# Altium footprint library Diodes.PcbLib: 39 footprints (part 2 of 3)
Each footprint in its own frame and in the unit in brackets; x right, y up, seen from the top. Pads: shape width x height; smd on the part's side, far side on the other; paste and mask are expansions set on the pad; w line width, h text height; cw(c..) or ccw(c..) is an arc to the next point about the centre after c.
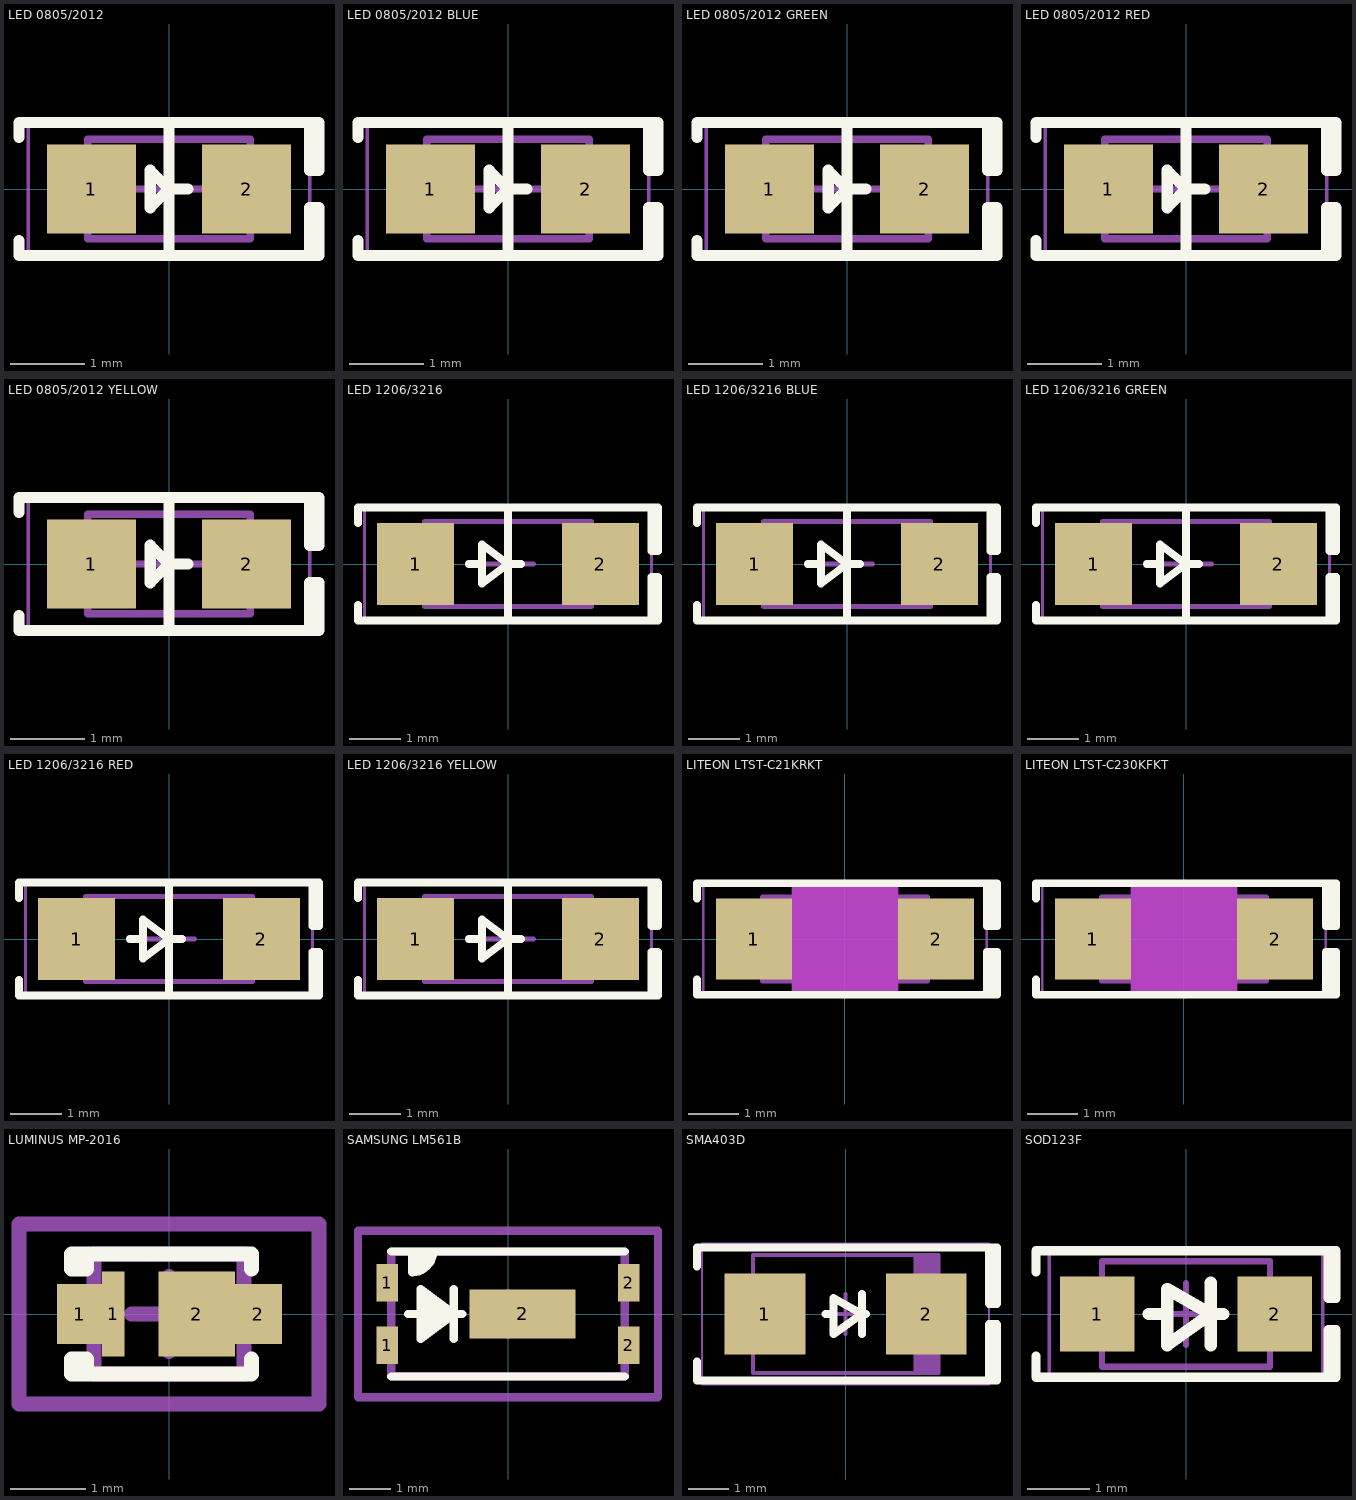
[diagram p1: the footprints below, top view; thin cyan lines are the x and y axes]

## LED 0805/2012 [mm] "Chip Diode, 2-Leads, Body 2.00x1.25mm, IPC Medium Density"
height 0.7
pads (2):
  rect 1.2x1.2 smd: 1(-1.05,0) 2(1.05,0)
Top Overlay:
  lines w0.15: -2.032,-0.7 -2.032,-0.9 1.905,-0.9 ; -2.032,0.7 -2.032,0.9 1.905,0.9 ; 0,-0.9 0,0.9 ; 0.254,0 0,0 ; 0,0 -0.254,0.254 -0.254,-0.254 0,0 ; 1.905,-0.9 2.032,-0.9 2.032,-0.254 1.905,-0.254 1.905,-0.9 ; 1.905,0.9 2.032,0.9 2.032,0.254 1.905,0.254 1.905,0.9
Mechanical 13:
  lines w0.1: -1.1,-0.675 -1.1,0.675 1.1,0.675 1.1,-0.675 -1.1,-0.675
Mechanical 15:
  lines w0.05: -1.905,-0.95 -1.905,0.95 1.905,0.95 1.905,-0.95 -1.905,-0.95
  lines w0.1: -0.5,0 0.5,0 ; 0,-0.5 0,0.5
3D body "LED 0805 Lens WHITE.STEP": height 0.9, standoff 0.3, extent -0.65,-0.625 0.65,0.625
3D body "LED 0805 Base WHITE.STEP": height 0.4, standoff 0, extent -1,-0.625 1,0.625

## LED 0805/2012 BLUE [mm] "Chip Diode, 2-Leads, Body 2.00x1.25mm, IPC Medium Density"
height 0.7
pads (2):
  rect 1.2x1.2 smd: 1(-1.05,0) 2(1.05,0)
Top Overlay:
  lines w0.15: -2.032,-0.7 -2.032,-0.9 1.905,-0.9 ; -2.032,0.7 -2.032,0.9 1.905,0.9 ; 0,-0.9 0,0.9 ; 0.254,0 0,0 ; 0,0 -0.254,-0.254 -0.254,0.254 0,0 ; 1.905,-0.9 1.905,-0.254 2.032,-0.254 2.032,-0.9 1.905,-0.9 ; 1.905,0.9 1.905,0.254 2.032,0.254 2.032,0.9 1.905,0.9
Mechanical 13:
  lines w0.1: -1.1,-0.675 1.1,-0.675 1.1,0.675 -1.1,0.675 -1.1,-0.675
Mechanical 15:
  lines w0.05: -1.905,-0.95 1.905,-0.95 1.905,0.95 -1.905,0.95 -1.905,-0.95
  lines w0.1: -0.5,0 0.5,0 ; 0,-0.5 0,0.5
3D body "LED 0805 Base BLUE.STEP": height 0.4, standoff 0, extent -1,-0.625 1,0.625
3D body "LED 0805 Lens BLUE.STEP": height 0.9, standoff 0.3, extent -0.65,-0.625 0.65,0.625

## LED 0805/2012 GREEN [mm] "Chip Diode, 2-Leads, Body 2.00x1.25mm, IPC Medium Density"
height 0.7
pads (2):
  rect 1.2x1.2 smd: 1(-1.05,0) 2(1.05,0)
Top Overlay:
  lines w0.15: -2.032,-0.7 -2.032,-0.9 1.905,-0.9 ; -2.032,0.7 -2.032,0.9 1.905,0.9 ; 0,-0.9 0,0.9 ; 0.254,0 0,0 ; 0,0 -0.254,0.254 -0.254,-0.254 0,0 ; 1.905,-0.9 1.905,-0.254 2.032,-0.254 2.032,-0.9 1.905,-0.9 ; 1.905,0.9 1.905,0.254 2.032,0.254 2.032,0.9 1.905,0.9
Mechanical 13:
  lines w0.1: -1.1,-0.675 1.1,-0.675 1.1,0.675 -1.1,0.675 -1.1,-0.675
Mechanical 15:
  lines w0.05: -1.905,-0.95 1.905,-0.95 1.905,0.95 -1.905,0.95 -1.905,-0.95
  lines w0.1: -0.5,0 0.5,0 ; 0,-0.5 0,0.5
3D body "LED 0805 Base GREEN.STEP": height 0.4, standoff 0, extent -1,-0.625 1,0.625
3D body "LED 0805 Lens GREEN.STEP": height 0.9, standoff 0.3, extent -0.65,-0.625 0.65,0.625

## LED 0805/2012 RED [mm] "Chip Diode, 2-Leads, Body 2.00x1.25mm, IPC Medium Density"
height 0.7
pads (2):
  rect 1.2x1.2 smd: 1(-1.05,0) 2(1.05,0)
Top Overlay:
  lines w0.15: -2.032,-0.7 -2.032,-0.9 1.905,-0.9 ; -2.032,0.7 -2.032,0.9 1.905,0.9 ; 0,-0.9 0,0.9 ; 0.254,0 0,0 ; 0,0 -0.254,0.254 -0.254,-0.254 0,0 ; 1.905,-0.9 2.032,-0.9 2.032,-0.254 1.905,-0.254 1.905,-0.9 ; 1.905,0.9 2.032,0.9 2.032,0.254 1.905,0.254 1.905,0.9
Mechanical 13:
  lines w0.1: -1.1,-0.675 -1.1,0.675 1.1,0.675 1.1,-0.675 -1.1,-0.675
Mechanical 15:
  lines w0.05: -1.905,-0.95 -1.905,0.95 1.905,0.95 1.905,-0.95 -1.905,-0.95
  lines w0.1: -0.5,0 0.5,0 ; 0,-0.5 0,0.5
3D body "LED 0805 Lens RED.STEP": height 0.9, standoff 0.3, extent -0.65,-0.625 0.65,0.625
3D body "LED 0805 Base RED.STEP": height 0.4, standoff 0, extent -1,-0.625 1,0.625

## LED 0805/2012 YELLOW [mm] "Chip Diode, 2-Leads, Body 2.00x1.25mm, IPC Medium Density"
height 0.7
pads (2):
  rect 1.2x1.2 smd: 1(-1.05,0) 2(1.05,0)
Top Overlay:
  lines w0.15: -2.032,-0.7 -2.032,-0.9 1.905,-0.9 ; -2.032,0.7 -2.032,0.9 1.905,0.9 ; 0,-0.9 0,0.9 ; 0.254,0 0,0 ; 0,0 -0.254,0.254 -0.254,-0.254 0,0 ; 1.905,-0.9 1.905,-0.254 2.032,-0.254 2.032,-0.9 1.905,-0.9 ; 1.905,0.9 1.905,0.254 2.032,0.254 2.032,0.9 1.905,0.9
Mechanical 13:
  lines w0.1: -1.1,-0.675 1.1,-0.675 1.1,0.675 -1.1,0.675 -1.1,-0.675
Mechanical 15:
  lines w0.05: -1.905,-0.95 1.905,-0.95 1.905,0.95 -1.905,0.95 -1.905,-0.95
  lines w0.1: -0.5,0 0.5,0 ; 0,-0.5 0,0.5
3D body "LED 0805 Base YELLOW.STEP": height 0.4, standoff 0, extent -1,-0.625 1,0.625
3D body "LED 0805 Lens YELLOW.STEP": height 0.9, standoff 0.3, extent -0.65,-0.625 0.65,0.625

## LED 1206/3216 [mm] "Chip Diode, 2-Leads, Body 3.13x1.55mm, IPC Medium Density"
height 0.7
pads (2):
  rect 1.5x1.6 smd: 1(-1.8,0) 2(1.8,0)
Top Overlay:
  lines w0.15: -2.921,-0.8 -2.921,-1.1 2.794,-1.1 ; -2.921,0.8 -2.921,1.1 2.794,1.1 ; -0.762,0 -0.508,0 ; 0,-1.1 0,1.1 ; 0.254,0 0,0 ; 0,0 -0.508,-0.381 -0.508,0.381 0,0 ; 2.794,-1.1 2.921,-1.1 2.921,-0.254 2.794,-0.254 2.794,-1.1 ; 2.794,1.1 2.921,1.1 2.921,0.254 2.794,0.254 2.794,1.1
Mechanical 13:
  lines w0.1: -1.625,-0.825 1.625,-0.825 1.625,0.825 -1.625,0.825 -1.625,-0.825
Mechanical 15:
  lines w0.05: -2.794,-1.1 2.794,-1.1 2.794,1.1 -2.794,1.1 -2.794,-1.1
  lines w0.1: -0.5,0 0.5,0 ; 0,-0.5 0,0.5
3D body "LED 1206 Lens WHITE.STEP": height 0.9, standoff 0.3, extent -0.75,-0.8 0.75,0.8
3D body "LED 1206 Base WHITE.STEP": height 0.4, standoff 0, extent -1.6,-0.8 1.6,0.8

## LED 1206/3216 BLUE [mm] "Chip Diode, 2-Leads, Body 3.13x1.55mm, IPC Medium Density"
height 0.7
pads (2):
  rect 1.5x1.6 smd: 1(-1.8,0) 2(1.8,0)
Top Overlay:
  lines w0.15: -2.921,-0.8 -2.921,-1.1 2.794,-1.1 ; -2.921,0.8 -2.921,1.1 2.794,1.1 ; -0.762,0 -0.508,0 ; 0,-1.1 0,1.1 ; 0.254,0 0,0 ; 0,0 -0.508,0.381 -0.508,-0.381 0,0 ; 2.794,-1.1 2.794,-0.254 2.921,-0.254 2.921,-1.1 2.794,-1.1 ; 2.794,1.1 2.794,0.254 2.921,0.254 2.921,1.1 2.794,1.1
Mechanical 13:
  lines w0.1: -1.625,-0.825 -1.625,0.825 1.625,0.825 1.625,-0.825 -1.625,-0.825
Mechanical 15:
  lines w0.05: -2.794,-1.1 -2.794,1.1 2.794,1.1 2.794,-1.1 -2.794,-1.1
  lines w0.1: -0.5,0 0.5,0 ; 0,-0.5 0,0.5
3D body "LED 1206 Base BLUE.STEP": height 0.4, standoff 0, extent -1.6,-0.8 1.6,0.8
3D body "LED 1206 Lens BLUE.STEP": height 0.9, standoff 0.3, extent -0.75,-0.8 0.75,0.8

## LED 1206/3216 GREEN [mm] "Chip Diode, 2-Leads, Body 3.13x1.55mm, IPC Medium Density"
height 0.7
pads (2):
  rect 1.5x1.6 smd: 1(-1.8,0) 2(1.8,0)
Top Overlay:
  lines w0.15: -2.921,-0.8 -2.921,-1.1 2.794,-1.1 ; -2.921,0.8 -2.921,1.1 2.794,1.1 ; -0.762,0 -0.508,0 ; 0,-1.1 0,1.1 ; 0.254,0 0,0 ; 0,0 -0.508,0.381 -0.508,-0.381 0,0 ; 2.794,-1.1 2.794,-0.254 2.921,-0.254 2.921,-1.1 2.794,-1.1 ; 2.794,1.1 2.794,0.254 2.921,0.254 2.921,1.1 2.794,1.1
Mechanical 13:
  lines w0.1: -1.625,-0.825 -1.625,0.825 1.625,0.825 1.625,-0.825 -1.625,-0.825
Mechanical 15:
  lines w0.05: -2.794,-1.1 -2.794,1.1 2.794,1.1 2.794,-1.1 -2.794,-1.1
  lines w0.1: -0.5,0 0.5,0 ; 0,-0.5 0,0.5
3D body "LED 1206 Base GREEN.STEP": height 0.4, standoff 0, extent -1.6,-0.8 1.6,0.8
3D body "LED 1206 Lens GREEN.STEP": height 0.9, standoff 0.3, extent -0.75,-0.8 0.75,0.8

## LED 1206/3216 RED [mm] "Chip Diode, 2-Leads, Body 3.13x1.55mm, IPC Medium Density"
height 0.7
pads (2):
  rect 1.5x1.6 smd: 1(-1.8,0) 2(1.8,0)
Top Overlay:
  lines w0.15: -2.921,-0.8 -2.921,-1.1 2.794,-1.1 ; -2.921,0.8 -2.921,1.1 2.794,1.1 ; -0.762,0 -0.508,0 ; 0,-1.1 0,1.1 ; 0.254,0 0,0 ; 0,0 -0.508,-0.381 -0.508,0.381 0,0 ; 2.794,-1.1 2.921,-1.1 2.921,-0.254 2.794,-0.254 2.794,-1.1 ; 2.794,1.1 2.921,1.1 2.921,0.254 2.794,0.254 2.794,1.1
Mechanical 13:
  lines w0.1: -1.625,-0.825 1.625,-0.825 1.625,0.825 -1.625,0.825 -1.625,-0.825
Mechanical 15:
  lines w0.05: -2.794,-1.1 2.794,-1.1 2.794,1.1 -2.794,1.1 -2.794,-1.1
  lines w0.1: -0.5,0 0.5,0 ; 0,-0.5 0,0.5
3D body "LED 1206 Lens RED.STEP": height 0.9, standoff 0.3, extent -0.75,-0.8 0.75,0.8
3D body "LED 1206 Base RED.STEP": height 0.4, standoff 0, extent -1.6,-0.8 1.6,0.8

## LED 1206/3216 YELLOW [mm] "Chip Diode, 2-Leads, Body 3.13x1.55mm, IPC Medium Density"
height 0.7
pads (2):
  rect 1.5x1.6 smd: 1(-1.8,0) 2(1.8,0)
Top Overlay:
  lines w0.15: -2.921,-0.8 -2.921,-1.1 2.794,-1.1 ; -2.921,0.8 -2.921,1.1 2.794,1.1 ; -0.762,0 -0.508,0 ; 0,-1.1 0,1.1 ; 0.254,0 0,0 ; 0,0 -0.508,-0.381 -0.508,0.381 0,0 ; 2.794,-1.1 2.921,-1.1 2.921,-0.254 2.794,-0.254 2.794,-1.1 ; 2.794,1.1 2.921,1.1 2.921,0.254 2.794,0.254 2.794,1.1
Mechanical 13:
  lines w0.1: -1.625,-0.825 1.625,-0.825 1.625,0.825 -1.625,0.825 -1.625,-0.825
Mechanical 15:
  lines w0.05: -2.794,-1.1 2.794,-1.1 2.794,1.1 -2.794,1.1 -2.794,-1.1
  lines w0.1: -0.5,0 0.5,0 ; 0,-0.5 0,0.5
3D body "LED 1206 Lens YELLOW.STEP": height 0.9, standoff 0.3, extent -0.75,-0.8 0.75,0.8
3D body "LED 1206 Base YELLOW.STEP": height 0.4, standoff 0, extent -1.6,-0.8 1.6,0.8

## LITEON LTST-C21KRKT [mm] "Chip Diode, 2-Leads, Body 3.13x1.55mm, IPC Medium Density"
height 0.7
pads (2):
  rect 1.5x1.6 smd: 1(-1.8,0) 2(1.8,0)
Top Overlay:
  rectangle: 2.794,-1.1 3,-0.254
  rectangle: 2.794,0.254 3,1.1
  lines w0.15: -2.921,-0.8 -2.921,-1.1 2.794,-1.1 ; -2.921,0.8 -2.921,1.1 2.794,1.1 ; 2.794,-1.1 3,-1.1 3,-0.254 2.794,-0.254 2.794,-1.1 ; 2.794,1.1 3,1.1 3,0.254 2.794,0.254 2.794,1.1
Keep-Out Layer:
  board cut-out: -1.05,1.15 -1.05,-1.15 1.05,-1.15 1.05,1.15
Mechanical 13:
  lines w0.1: -1.625,-0.825 1.625,-0.825 1.625,0.825 -1.625,0.825 -1.625,-0.825
  lines w0.15: -0.762,0 -0.508,0 ; 0,-1.1 0,1.1 ; 0.254,0 0,0 ; 0,0 -0.508,-0.381 -0.508,0.381 0,0
Mechanical 15:
  lines w0.05: -2.794,-1.1 2.794,-1.1 2.794,1.1 -2.794,1.1 -2.794,-1.1
  lines w0.1: -0.5,0 0.5,0 ; 0,-0.5 0,0.5
MILLING:
  rectangle: -1.05,-1.15 1.05,1.15
3D body "LED 1206 Lens RED.STEP": height 0, standoff -0.6, extent -0.75,-0.8 0.75,0.8
3D body "LED 1206 Base RED.STEP": height 0.3, standoff -0.1, extent -1.6,-0.8 1.6,0.8

## LITEON LTST-C230KFKT [mm] "Chip Diode, 2-Leads, Body 3.13x1.55mm, IPC Medium Density"
height 0.7
pads (2):
  rect 1.5x1.6 smd: 1(-1.8,0) 2(1.8,0)
Top Overlay:
  rectangle: 2.794,-1.1 3,-0.254
  rectangle: 2.794,0.254 3,1.1
  lines w0.15: -2.921,-0.8 -2.921,-1.1 2.794,-1.1 ; -2.921,0.8 -2.921,1.1 2.794,1.1 ; 2.794,-1.1 3,-1.1 3,-0.254 2.794,-0.254 2.794,-1.1 ; 2.794,1.1 3,1.1 3,0.254 2.794,0.254 2.794,1.1
Keep-Out Layer:
  board cut-out: -1.05,1.15 -1.05,-1.15 1.05,-1.15 1.05,1.15
Mechanical 13:
  lines w0.1: -1.625,-0.825 1.625,-0.825 1.625,0.825 -1.625,0.825 -1.625,-0.825
  lines w0.15: -0.762,0 -0.508,0 ; 0,-1.1 0,1.1 ; 0.254,0 0,0 ; 0,0 -0.508,-0.381 -0.508,0.381 0,0
Mechanical 15:
  lines w0.05: -2.794,-1.1 2.794,-1.1 2.794,1.1 -2.794,1.1 -2.794,-1.1
  lines w0.1: -0.5,0 0.5,0 ; 0,-0.5 0,0.5
MILLING:
  rectangle: -1.05,-1.15 1.05,1.15
3D body "LED 0805 Lens YELLOW.STEP": height 0, standoff -0.6, extent -0.65,-0.625 0.65,0.625
3D body "LED 1206 Base YELLOW.STEP": height 0.3, standoff -0.1, extent -1.6,-0.8 1.6,0.8

## LUMINUS MP-2016 [mm]
height 0.52
pads (4):
  rect 0.6x0.8 smd: 1(-1.192,0)
  rect 0.3x1.14 smd: 1(-0.742,0)
  rect 1.02x1.14 smd: 2(0.367,0)
  rect 0.63x0.8 smd: 2(1.193,0)
Top Overlay:
  lines w0.2: 1.1,-0.6 1.1,-0.8 1,-0.8 -1.1,-0.8 ; 1.1,0.6 1.1,0.8 1,0.8 -1.1,0.8 ; -1.1,-0.8 -1.2,-0.8 -1.3,-0.8 -1.3,-0.6 -1.1,-0.6 -1.1,-0.8 ; -1.1,0.8 -1.3,0.8 -1.3,0.6 -1.1,0.6 -1.1,0.8
Mechanical 1:
  lines w0.2: -0.999,-0.799 0.999,-0.799 0.999,0.799 -0.999,0.799 -0.999,-0.799
Mechanical 15:
  lines w0.2: -0.5,0 0.5,0 ; 0,-0.5 0,0.5 ; -2,-1.2 -2,1.2 2,1.2 2,-1.2 -2,-1.2
3D body "LUMINUS MP2016.STEP": height 0.52, standoff 0, extent -0.999,-0.799 0.999,0.799

## SAMSUNG LM561B [mm]
height 0.8
pads (5):
  rect 0.52x0.9 smd: 1(-2.9,-0.75) 1(-2.9,0.75) 2(2.9,-0.75) 2(2.9,0.75)
  rect 2.54x1.18 smd: 2(0.35,0)
Top Overlay:
  region: -1.8,1.5 -2.3,1.5 -2.3,1 -2.1,1 -1.8,1.3
  region: -2.1,0.6 -2.1,-0.6 -2,-0.6 -1.4,0 -2,0.6
  lines w0.2: -2.8,-1.5 2.8,-1.5 ; -2.8,1.5 2.8,1.5 ; -2.4,0 -1.1,0 ; -2.3,1.5 -2.3,1 ; -1.8,1.5 cw(c-2.3,1.5) -2.3,1 ; -1.3,-0.6 -1.3,0.6 ; -2.3,1 -2.3,1 ; -2.1,-0.6 -2.1,0.6 -1.3,0 -2.1,-0.6
Mechanical 1:
  lines w0.2: -2.8,-1.498 -2.8,1.498 2.8,1.498 2.8,-1.498 -2.8,-1.498
Mechanical 15:
  lines w0.2: -0.5,0 0.5,0 ; 0,-0.5 0,0.5 ; -3.6,-2 3.6,-2 3.6,2 -3.6,2 -3.6,-2
3D body "Samsung LM561B LED.STEP": height 0.8, standoff 0, extent -2.8,-1.498 2.8,1.498

## SMA403D [mm] "Molded Diode, 2-Leads, Body 4.30x2.60mm, IPC Medium Density"
height 2.4
pads (2):
  rect 2x2 smd: 1(-2,0) 2(2,0)
Top Overlay:
  lines w0.2: -3.683,-1.175 -3.683,-1.651 3.75,-1.651 3.75,-0.254 3.556,-0.254 3.556,-1.651 ; -3.683,1.175 -3.683,1.651 3.75,1.651 3.75,0.254 3.556,0.254 3.556,1.651 ; -0.5,0 -0.3,0 ; 0.4,-0.5 0.4,0.5 ; 0.5,0 0.4,0 ; 0.4,0 -0.3,0.4 -0.3,-0.5 0.4,0
Mechanical 13:
  rectangle: 1.681,-1.46 2.3,1.46
  lines w0.1: -2.3,-1.46 -2.3,1.46 2.3,1.46 2.3,-1.46 -2.3,-1.46
Mechanical 15:
  lines w0.05: -3.556,-1.75 -3.556,1.75 3.556,1.75 3.556,-1.75 -3.556,-1.75
  lines w0.1: -0.5,0 0.5,0 ; 0,-0.5 0,0.5
3D body "SMA.STEP": height 2.4, standoff 0, extent -2.6,-1.375 2.6,1.375

## SOD123F [mm] "SODFL, 2-Leads, Body 1.60x3.50mm, IPC Medium Density"
height 1
pads (2):
  rect 1.2x1.2 smd: 1(-1.43,0) 2(1.43,0)
Top Overlay:
  lines w0.15: -2.413,-0.675 -2.413,-1.016 2.286,-1.016 ; -2.413,0.675 -2.413,1.016 2.286,1.016 ; 2.286,-1.016 2.413,-1.016 2.413,-0.254 2.286,-0.254 2.286,-1.016 ; 2.286,1.016 2.286,0.254 2.413,0.254 2.413,1.016 2.286,1.016
  lines w0.2: -0.6,0 -0.3,0 ; 0.4,-0.5 0.4,0.5 ; 0.6,0 0.4,0 ; 0.4,0 -0.3,0.4 -0.3,-0.5 0.4,0
Mechanical 13:
  lines w0.1: -1.35,-0.85 -1.35,0.85 1.35,0.85 1.35,-0.85 -1.35,-0.85
Mechanical 15:
  lines w0.05: -2.2,-1 -2.2,1 2.2,1 2.2,-1 -2.2,-1
  lines w0.1: -0.5,0 0.5,0 ; 0,-0.5 0,0.5
3D body "SOD123F.STEP": height 1.1, standoff 0, extent -1.75,-0.8 1.75,0.8